# Altium schematic symbol library ADM2483_Isolator.SchLib: 1 symbol
Pins are listed as number, name and electrical type; pins without a type are passive.

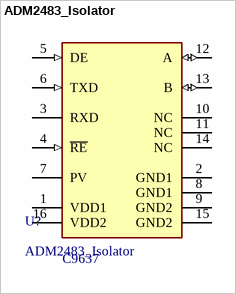
[diagram p0: symbol ADM2483_Isolator]

## ADM2483_Isolator
designator U?  LCSC: C9637
Magnetic isolation 3 SOP-16-300mil  Digital Isolators ROHS
footprint ADM2483_Isolator
pins: 1 VDD1 (power) "Power Supply (Logic Side)", 2 GND1 (power) "Ground (Logic Side)", 3 RXD (hiz) "Receiver Output Data", 4 ~{RE} (in) "Receiver Enable Input", 5 DE (in) "Driver Enable Input", 6 TXD (in) "Transmit Data Input", 7 PV (power) "Power_Valid", 8 GND1 (power) "Ground (Logic Side)", 9 GND2 (power) "Ground (Bus Side)", 10 NC "No Connect", 11 NC "No Connect", 12 A (io) "Noninverting Driver Output/Receiver Input", 13 B (io) "Inverting Driver Output/Receiver Input", 14 NC "No Connect", 15 GND2 (power) "Ground (Bus Side)", 16 VDD2 (power) "Power Supply (Bus Side)"